# Altium schematic symbol library Regulator_Switching.SchLib: 1279 symbols (part 14 of 14)
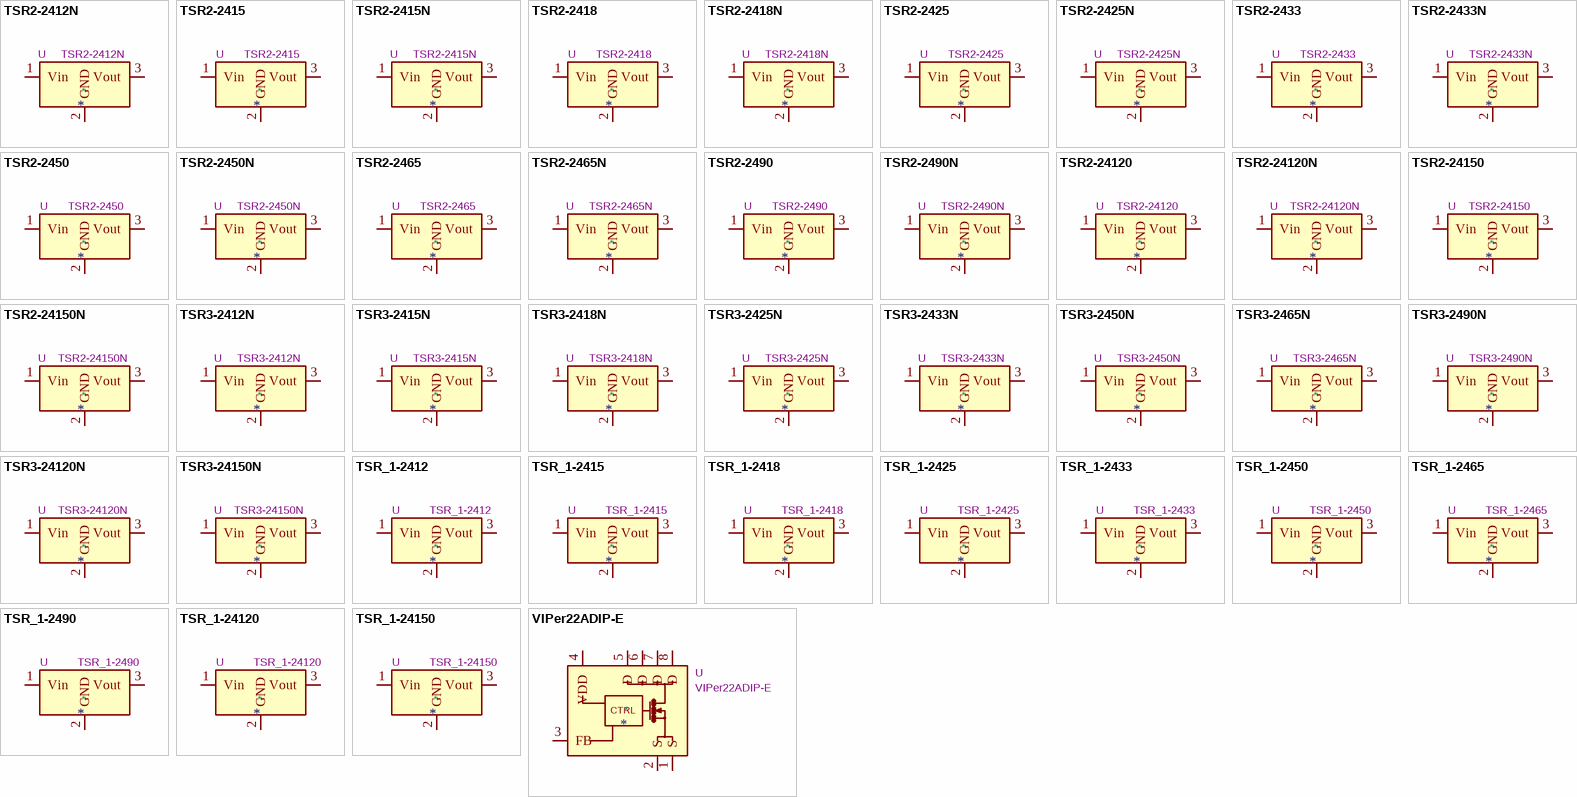
[diagram p45: symbols TSR2-2412N to VIPer22ADIP-E]

## TSR2-2418
designator *  value TSR2-2418  Reference: U
2A step-down regulator, fixed 1.8V output voltage, 4.6-36V input voltage, TO-220 compatible LM78xx replacement, SIP-3; ki_keywords: Traco non-isolated pol dcdc converter single; ki_fp_filters: Converter*DCDC*TRACO*TSR2*xxxx**THT*; Footprint: Converter_DCDC:Converter_DCDC_TRACO_TSR2-xxxx_THT; Datasheet: https://www.tracopower.com/products/tsr2.pdf; Description_: 2A step-down regulator, fixed 1.8V output voltage, 4.6-36V input voltage, TO-220 compatible LM78xx replacement, SIP-3
pins: 1 Vin, 2 GND, 3 Vout

## TSR2-2418N
designator *  value TSR2-2418N  Reference: U
2A step-down regulator, fixed 1.8V output voltage, 4.6-36V input voltage, TO-220 compatible LM78xx replacement; ki_keywords: Traco non-isolated pol dcdc converter single; ki_fp_filters: Converter*DCDC*TRACO*TSR2*24xxN*24xxxN*THT*; Footprint: Converter_DCDC:Converter_DCDC_TRACO_TSR2-24xxN_TSR2-24xxxN_THT; Datasheet: https://www.tracopower.com/products/tsr2n.pdf; Description_: 2A step-down regulator, fixed 1.8V output voltage, 4.6-36V input voltage, TO-220 compatible LM78xx replacement
pins: 1 Vin, 2 GND, 3 Vout

## TSR2-2425
designator *  value TSR2-2425  Reference: U
2A step-down regulator, fixed 2.5V output voltage, 4.6-36V input voltage, TO-220 compatible LM78xx replacement, SIP-3; ki_keywords: Traco non-isolated pol dcdc converter single; ki_fp_filters: Converter*DCDC*TRACO*TSR2*xxxx**THT*; Footprint: Converter_DCDC:Converter_DCDC_TRACO_TSR2-xxxx_THT; Datasheet: https://www.tracopower.com/products/tsr2.pdf; Description_: 2A step-down regulator, fixed 2.5V output voltage, 4.6-36V input voltage, TO-220 compatible LM78xx replacement, SIP-3
pins: 1 Vin, 2 GND, 3 Vout

## TSR2-2425N
designator *  value TSR2-2425N  Reference: U
2A step-down regulator, fixed 2.5V output voltage, 4.6-36V input voltage, TO-220 compatible LM78xx replacement; ki_keywords: Traco non-isolated pol dcdc converter single; ki_fp_filters: Converter*DCDC*TRACO*TSR2*24xxN*24xxxN*THT*; Footprint: Converter_DCDC:Converter_DCDC_TRACO_TSR2-24xxN_TSR2-24xxxN_THT; Datasheet: https://www.tracopower.com/products/tsr2n.pdf; Description_: 2A step-down regulator, fixed 2.5V output voltage, 4.6-36V input voltage, TO-220 compatible LM78xx replacement
pins: 1 Vin, 2 GND, 3 Vout

## TSR2-2433
designator *  value TSR2-2433  Reference: U
2A step-down regulator, fixed 3.3V output voltage, 4.75-36V input voltage, TO-220 compatible LM78xx replacement, SIP-3; ki_keywords: Traco non-isolated pol dcdc converter single; ki_fp_filters: Converter*DCDC*TRACO*TSR2*xxxx**THT*; Footprint: Converter_DCDC:Converter_DCDC_TRACO_TSR2-xxxx_THT; Datasheet: https://www.tracopower.com/products/tsr2.pdf; Description_: 2A step-down regulator, fixed 3.3V output voltage, 4.75-36V input voltage, TO-220 compatible LM78xx replacement, SIP-3
pins: 1 Vin, 2 GND, 3 Vout

## TSR2-2433N
designator *  value TSR2-2433N  Reference: U
2A step-down regulator, fixed 3.3V output voltage, 4.6-36V input voltage, TO-220 compatible LM78xx replacement; ki_keywords: Traco non-isolated pol dcdc converter single; ki_fp_filters: Converter*DCDC*TRACO*TSR2*24xxN*24xxxN*THT*; Footprint: Converter_DCDC:Converter_DCDC_TRACO_TSR2-24xxN_TSR2-24xxxN_THT; Datasheet: https://www.tracopower.com/products/tsr2n.pdf; Description_: 2A step-down regulator, fixed 3.3V output voltage, 4.6-36V input voltage, TO-220 compatible LM78xx replacement
pins: 1 Vin, 2 GND, 3 Vout

## TSR2-2450
designator *  value TSR2-2450  Reference: U
2A step-down regulator, fixed 5V output voltage, 6.5-36V input voltage, TO-220 compatible LM78xx replacement, SIP-3; ki_keywords: Traco non-isolated pol dcdc converter single; ki_fp_filters: Converter*DCDC*TRACO*TSR2*xxxx**THT*; Footprint: Converter_DCDC:Converter_DCDC_TRACO_TSR2-xxxx_THT; Datasheet: https://www.tracopower.com/products/tsr2.pdf; Description_: 2A step-down regulator, fixed 5V output voltage, 6.5-36V input voltage, TO-220 compatible LM78xx replacement, SIP-3
pins: 1 Vin, 2 GND, 3 Vout

## TSR2-2450N
designator *  value TSR2-2450N  Reference: U
2A step-down regulator, fixed 5V output voltage, 6.5-36V input voltage, TO-220 compatible LM78xx replacement; ki_keywords: Traco non-isolated pol dcdc converter single; ki_fp_filters: Converter*DCDC*TRACO*TSR2*24xxN*24xxxN*THT*; Footprint: Converter_DCDC:Converter_DCDC_TRACO_TSR2-24xxN_TSR2-24xxxN_THT; Datasheet: https://www.tracopower.com/products/tsr2n.pdf; Description_: 2A step-down regulator, fixed 5V output voltage, 6.5-36V input voltage, TO-220 compatible LM78xx replacement
pins: 1 Vin, 2 GND, 3 Vout

## TSR2-2465
designator *  value TSR2-2465  Reference: U
2A step-down regulator, fixed 6.5V output voltage, 9-36V input voltage, TO-220 compatible LM78xx replacement, SIP-3; ki_keywords: Traco non-isolated pol dcdc converter single; ki_fp_filters: Converter*DCDC*TRACO*TSR2*xxxx**THT*; Footprint: Converter_DCDC:Converter_DCDC_TRACO_TSR2-xxxx_THT; Datasheet: https://www.tracopower.com/products/tsr2.pdf; Description_: 2A step-down regulator, fixed 6.5V output voltage, 9-36V input voltage, TO-220 compatible LM78xx replacement, SIP-3
pins: 1 Vin, 2 GND, 3 Vout

## TSR2-2465N
designator *  value TSR2-2465N  Reference: U
2A step-down regulator, fixed 6.5V output voltage, 9-36V input voltage, TO-220 compatible LM78xx replacement; ki_keywords: Traco non-isolated pol dcdc converter single; ki_fp_filters: Converter*DCDC*TRACO*TSR2*24xxN*24xxxN*THT*; Footprint: Converter_DCDC:Converter_DCDC_TRACO_TSR2-24xxN_TSR2-24xxxN_THT; Datasheet: https://www.tracopower.com/products/tsr2n.pdf; Description_: 2A step-down regulator, fixed 6.5V output voltage, 9-36V input voltage, TO-220 compatible LM78xx replacement
pins: 1 Vin, 2 GND, 3 Vout

## TSR2-2490
designator *  value TSR2-2490  Reference: U
2A step-down regulator, fixed 9V output voltage, 12-36V input voltage, TO-220 compatible LM78xx replacement, SIP-3; ki_keywords: Traco non-isolated pol dcdc converter single; ki_fp_filters: Converter*DCDC*TRACO*TSR2*xxxx**THT*; Footprint: Converter_DCDC:Converter_DCDC_TRACO_TSR2-xxxx_THT; Datasheet: https://www.tracopower.com/products/tsr2.pdf; Description_: 2A step-down regulator, fixed 9V output voltage, 12-36V input voltage, TO-220 compatible LM78xx replacement, SIP-3
pins: 1 Vin, 2 GND, 3 Vout

## TSR2-2490N
designator *  value TSR2-2490N  Reference: U
2A step-down regulator, fixed 9V output voltage, 11-36V input voltage, TO-220 compatible LM78xx replacement; ki_keywords: Traco non-isolated pol dcdc converter single; ki_fp_filters: Converter*DCDC*TRACO*TSR2*24xxN*24xxxN*THT*; Footprint: Converter_DCDC:Converter_DCDC_TRACO_TSR2-24xxN_TSR2-24xxxN_THT; Datasheet: https://www.tracopower.com/products/tsr2n.pdf; Description_: 2A step-down regulator, fixed 9V output voltage, 11-36V input voltage, TO-220 compatible LM78xx replacement
pins: 1 Vin, 2 GND, 3 Vout

## TSR2-24120
designator *  value TSR2-24120  Reference: U
2A step-down regulator, fixed 12V output voltage, 15-36V input voltage, TO-220 compatible LM78xx replacement, SIP-3; ki_keywords: Traco non-isolated pol dcdc converter single; ki_fp_filters: Converter*DCDC*TRACO*TSR2*xxxx**THT*; Footprint: Converter_DCDC:Converter_DCDC_TRACO_TSR2-xxxx_THT; Datasheet: https://www.tracopower.com/products/tsr2.pdf; Description_: 2A step-down regulator, fixed 12V output voltage, 15-36V input voltage, TO-220 compatible LM78xx replacement, SIP-3
pins: 1 Vin, 2 GND, 3 Vout

## TSR2-24120N
designator *  value TSR2-24120N  Reference: U
2A step-down regulator, fixed 12V output voltage, 15-36V input voltage, TO-220 compatible LM78xx replacement; ki_keywords: Traco non-isolated pol dcdc converter single; ki_fp_filters: Converter*DCDC*TRACO*TSR2*24xxN*24xxxN*THT*; Footprint: Converter_DCDC:Converter_DCDC_TRACO_TSR2-24xxN_TSR2-24xxxN_THT; Datasheet: https://www.tracopower.com/products/tsr2n.pdf; Description_: 2A step-down regulator, fixed 12V output voltage, 15-36V input voltage, TO-220 compatible LM78xx replacement
pins: 1 Vin, 2 GND, 3 Vout

## TSR2-24150
designator *  value TSR2-24150  Reference: U
2A step-down regulator, fixed 15V output voltage, 18-36V input voltage, TO-220 compatible LM78xx replacement, SIP-3; ki_keywords: Traco non-isolated pol dcdc converter single; ki_fp_filters: Converter*DCDC*TRACO*TSR2*xxxx**THT*; Footprint: Converter_DCDC:Converter_DCDC_TRACO_TSR2-xxxx_THT; Datasheet: https://www.tracopower.com/products/tsr2.pdf; Description_: 2A step-down regulator, fixed 15V output voltage, 18-36V input voltage, TO-220 compatible LM78xx replacement, SIP-3
pins: 1 Vin, 2 GND, 3 Vout

## TSR2-24150N
designator *  value TSR2-24150N  Reference: U
2A step-down regulator, fixed 15V output voltage, 18-36V input voltage, TO-220 compatible LM78xx replacement; ki_keywords: Traco non-isolated pol dcdc converter single; ki_fp_filters: Converter*DCDC*TRACO*TSR2*24xxN*24xxxN*THT*; Footprint: Converter_DCDC:Converter_DCDC_TRACO_TSR2-24xxN_TSR2-24xxxN_THT; Datasheet: https://www.tracopower.com/products/tsr2n.pdf; Description_: 2A step-down regulator, fixed 15V output voltage, 18-36V input voltage, TO-220 compatible LM78xx replacement
pins: 1 Vin, 2 GND, 3 Vout

## TSR3-2412N
designator *  value TSR3-2412N  Reference: U
3A step-down regulator, fixed 1.2V output voltage, 4.6-28V input voltage, TO-220 compatible LM78xx replacement; ki_keywords: Traco non-isolated pol dcdc converter single; ki_fp_filters: Converter*DCDC*TRACO*TSR2*24xxN*24xxxN*THT*; Footprint: Converter_DCDC:Converter_DCDC_TRACO_TSR2-24xxN_TSR2-24xxxN_THT; Datasheet: https://www.tracopower.com/products/tsr3n.pdf; Description_: 3A step-down regulator, fixed 1.2V output voltage, 4.6-28V input voltage, TO-220 compatible LM78xx replacement
pins: 1 Vin, 2 GND, 3 Vout

## TSR3-2415N
designator *  value TSR3-2415N  Reference: U
3A step-down regulator, fixed 1.5V output voltage, 4.6-32V input voltage, TO-220 compatible LM78xx replacement; ki_keywords: Traco non-isolated pol dcdc converter single; ki_fp_filters: Converter*DCDC*TRACO*TSR2*24xxN*24xxxN*THT*; Footprint: Converter_DCDC:Converter_DCDC_TRACO_TSR2-24xxN_TSR2-24xxxN_THT; Datasheet: https://www.tracopower.com/products/tsr3n.pdf; Description_: 3A step-down regulator, fixed 1.5V output voltage, 4.6-32V input voltage, TO-220 compatible LM78xx replacement
pins: 1 Vin, 2 GND, 3 Vout

## TSR3-2418N
designator *  value TSR3-2418N  Reference: U
3A step-down regulator, fixed 1.8V output voltage, 4.6-36V input voltage, TO-220 compatible LM78xx replacement; ki_keywords: Traco non-isolated pol dcdc converter single; ki_fp_filters: Converter*DCDC*TRACO*TSR2*24xxN*24xxxN*THT*; Footprint: Converter_DCDC:Converter_DCDC_TRACO_TSR2-24xxN_TSR2-24xxxN_THT; Datasheet: https://www.tracopower.com/products/tsr3n.pdf; Description_: 3A step-down regulator, fixed 1.8V output voltage, 4.6-36V input voltage, TO-220 compatible LM78xx replacement
pins: 1 Vin, 2 GND, 3 Vout

## TSR3-2425N
designator *  value TSR3-2425N  Reference: U
3A step-down regulator, fixed 2.5V output voltage, 4.6-36V input voltage, TO-220 compatible LM78xx replacement; ki_keywords: Traco non-isolated pol dcdc converter single; ki_fp_filters: Converter*DCDC*TRACO*TSR2*24xxN*24xxxN*THT*; Footprint: Converter_DCDC:Converter_DCDC_TRACO_TSR2-24xxN_TSR2-24xxxN_THT; Datasheet: https://www.tracopower.com/products/tsr3n.pdf; Description_: 3A step-down regulator, fixed 2.5V output voltage, 4.6-36V input voltage, TO-220 compatible LM78xx replacement
pins: 1 Vin, 2 GND, 3 Vout

## TSR3-2433N
designator *  value TSR3-2433N  Reference: U
3A step-down regulator, fixed 3.3V output voltage, 4.6-36V input voltage, TO-220 compatible LM78xx replacement; ki_keywords: Traco non-isolated pol dcdc converter single; ki_fp_filters: Converter*DCDC*TRACO*TSR2*24xxN*24xxxN*THT*; Footprint: Converter_DCDC:Converter_DCDC_TRACO_TSR2-24xxN_TSR2-24xxxN_THT; Datasheet: https://www.tracopower.com/products/tsr3n.pdf; Description_: 3A step-down regulator, fixed 3.3V output voltage, 4.6-36V input voltage, TO-220 compatible LM78xx replacement
pins: 1 Vin, 2 GND, 3 Vout

## TSR3-2450N
designator *  value TSR3-2450N  Reference: U
3A step-down regulator, fixed 5V output voltage, 6.5-36V input voltage, TO-220 compatible LM78xx replacement; ki_keywords: Traco non-isolated pol dcdc converter single; ki_fp_filters: Converter*DCDC*TRACO*TSR2*24xxN*24xxxN*THT*; Footprint: Converter_DCDC:Converter_DCDC_TRACO_TSR2-24xxN_TSR2-24xxxN_THT; Datasheet: https://www.tracopower.com/products/tsr3n.pdf; Description_: 3A step-down regulator, fixed 5V output voltage, 6.5-36V input voltage, TO-220 compatible LM78xx replacement
pins: 1 Vin, 2 GND, 3 Vout

## TSR3-2465N
designator *  value TSR3-2465N  Reference: U
3A step-down regulator, fixed 6.5V output voltage, 9-36V input voltage, TO-220 compatible LM78xx replacement; ki_keywords: Traco non-isolated pol dcdc converter single; ki_fp_filters: Converter*DCDC*TRACO*TSR2*24xxN*24xxxN*THT*; Footprint: Converter_DCDC:Converter_DCDC_TRACO_TSR2-24xxN_TSR2-24xxxN_THT; Datasheet: https://www.tracopower.com/products/tsr3n.pdf; Description_: 3A step-down regulator, fixed 6.5V output voltage, 9-36V input voltage, TO-220 compatible LM78xx replacement
pins: 1 Vin, 2 GND, 3 Vout

## TSR3-2490N
designator *  value TSR3-2490N  Reference: U
3A step-down regulator, fixed 9V output voltage, 11-36V input voltage, TO-220 compatible LM78xx replacement; ki_keywords: Traco non-isolated pol dcdc converter single; ki_fp_filters: Converter*DCDC*TRACO*TSR2*24xxN*24xxxN*THT*; Footprint: Converter_DCDC:Converter_DCDC_TRACO_TSR2-24xxN_TSR2-24xxxN_THT; Datasheet: https://www.tracopower.com/products/tsr3n.pdf; Description_: 3A step-down regulator, fixed 9V output voltage, 11-36V input voltage, TO-220 compatible LM78xx replacement
pins: 1 Vin, 2 GND, 3 Vout

## TSR3-24120N
designator *  value TSR3-24120N  Reference: U
3A step-down regulator, fixed 12V output voltage, 15-36V input voltage, TO-220 compatible LM78xx replacement; ki_keywords: Traco non-isolated pol dcdc converter single; ki_fp_filters: Converter*DCDC*TRACO*TSR2*24xxN*24xxxN*THT*; Footprint: Converter_DCDC:Converter_DCDC_TRACO_TSR2-24xxN_TSR2-24xxxN_THT; Datasheet: https://www.tracopower.com/products/tsr3n.pdf; Description_: 3A step-down regulator, fixed 12V output voltage, 15-36V input voltage, TO-220 compatible LM78xx replacement
pins: 1 Vin, 2 GND, 3 Vout

## TSR3-24150N
designator *  value TSR3-24150N  Reference: U
3A step-down regulator, fixed 15V output voltage, 18-36V input voltage, TO-220 compatible LM78xx replacement; ki_keywords: Traco non-isolated pol dcdc converter single; ki_fp_filters: Converter*DCDC*TRACO*TSR2*24xxN*24xxxN*THT*; Footprint: Converter_DCDC:Converter_DCDC_TRACO_TSR2-24xxN_TSR2-24xxxN_THT; Datasheet: https://www.tracopower.com/products/tsr3n.pdf; Description_: 3A step-down regulator, fixed 15V output voltage, 18-36V input voltage, TO-220 compatible LM78xx replacement
pins: 1 Vin, 2 GND, 3 Vout

## TSR_1-2412
designator *  value TSR_1-2412  Reference: U
1A step-down regulator module, fixed 1.2V output voltage, 6-36V input voltage, -40°C to +85°C temperature range, TO-220 compatible LM78xx replacement; ki_keywords: dc-dc traco buck; ki_fp_filters: Converter*DCDC*TRACO*TSR?1*; Footprint: Converter_DCDC:Converter_DCDC_TRACO_TSR-1_THT; Datasheet: http://www.tracopower.com/products/tsr1.pdf; Description_: 1A step-down regulator module, fixed 1.2V output voltage, 6-36V input voltage, -40°C to +85°C temperature range, TO-220 compatible LM78xx replacement
pins: 1 Vin, 2 GND, 3 Vout

## TSR_1-2415
designator *  value TSR_1-2415  Reference: U
1A step-down regulator module, fixed 1.5V output voltage, 6-36V input voltage, -40°C to +85°C temperature range, TO-220 compatible LM78xx replacement; ki_keywords: dc-dc traco buck; ki_fp_filters: Converter*DCDC*TRACO*TSR?1*; Footprint: Converter_DCDC:Converter_DCDC_TRACO_TSR-1_THT; Datasheet: http://www.tracopower.com/products/tsr1.pdf; Description_: 1A step-down regulator module, fixed 1.5V output voltage, 6-36V input voltage, -40°C to +85°C temperature range, TO-220 compatible LM78xx replacement
pins: 1 Vin, 2 GND, 3 Vout

## TSR_1-2418
designator *  value TSR_1-2418  Reference: U
1A step-down regulator module, fixed 1.8V output voltage, 6-36V input voltage, -40°C to +85°C temperature range, TO-220 compatible LM78xx replacement; ki_keywords: dc-dc traco buck; ki_fp_filters: Converter*DCDC*TRACO*TSR?1*; Footprint: Converter_DCDC:Converter_DCDC_TRACO_TSR-1_THT; Datasheet: http://www.tracopower.com/products/tsr1.pdf; Description_: 1A step-down regulator module, fixed 1.8V output voltage, 6-36V input voltage, -40°C to +85°C temperature range, TO-220 compatible LM78xx replacement
pins: 1 Vin, 2 GND, 3 Vout

## TSR_1-2425
designator *  value TSR_1-2425  Reference: U
1A step-down regulator module, fixed 2.5V output voltage, 6-36V input voltage, -40°C to +85°C temperature range, TO-220 compatible LM78xx replacement; ki_keywords: dc-dc traco buck; ki_fp_filters: Converter*DCDC*TRACO*TSR?1*; Footprint: Converter_DCDC:Converter_DCDC_TRACO_TSR-1_THT; Datasheet: http://www.tracopower.com/products/tsr1.pdf; Description_: 1A step-down regulator module, fixed 2.5V output voltage, 6-36V input voltage, -40°C to +85°C temperature range, TO-220 compatible LM78xx replacement
pins: 1 Vin, 2 GND, 3 Vout

## TSR_1-2433
designator *  value TSR_1-2433  Reference: U
1A step-down regulator module, fixed 3.3V output voltage, 5-36V input voltage, -40°C to +85°C temperature range, TO-220 compatible LM78xx replacement; ki_keywords: dc-dc traco buck; ki_fp_filters: Converter*DCDC*TRACO*TSR?1*; Footprint: Converter_DCDC:Converter_DCDC_TRACO_TSR-1_THT; Datasheet: http://www.tracopower.com/products/tsr1.pdf; Description_: 1A step-down regulator module, fixed 3.3V output voltage, 5-36V input voltage, -40°C to +85°C temperature range, TO-220 compatible LM78xx replacement
pins: 1 Vin, 2 GND, 3 Vout

## TSR_1-2450
designator *  value TSR_1-2450  Reference: U
1A step-down regulator module, fixed 5V output voltage, 5-36V input voltage, -40°C to +85°C temperature range, TO-220 compatible LM78xx replacement; ki_keywords: dc-dc traco buck; ki_fp_filters: Converter*DCDC*TRACO*TSR?1*; Footprint: Converter_DCDC:Converter_DCDC_TRACO_TSR-1_THT; Datasheet: http://www.tracopower.com/products/tsr1.pdf; Description_: 1A step-down regulator module, fixed 5V output voltage, 5-36V input voltage, -40°C to +85°C temperature range, TO-220 compatible LM78xx replacement
pins: 1 Vin, 2 GND, 3 Vout

## TSR_1-2465
designator *  value TSR_1-2465  Reference: U
1A step-down regulator module, fixed 6.5V output voltage, 9-36V input voltage, -40°C to +85°C temperature range, TO-220 compatible LM78xx replacement; ki_keywords: dc-dc traco buck; ki_fp_filters: Converter*DCDC*TRACO*TSR?1*; Footprint: Converter_DCDC:Converter_DCDC_TRACO_TSR-1_THT; Datasheet: http://www.tracopower.com/products/tsr1.pdf; Description_: 1A step-down regulator module, fixed 6.5V output voltage, 9-36V input voltage, -40°C to +85°C temperature range, TO-220 compatible LM78xx replacement
pins: 1 Vin, 2 GND, 3 Vout

## TSR_1-2490
designator *  value TSR_1-2490  Reference: U
1A step-down regulator module, fixed 9V output voltage, 2-36V input voltage, -40°C to +85°C temperature range, TO-220 compatible LM78xx replacement; ki_keywords: dc-dc traco buck; ki_fp_filters: Converter*DCDC*TRACO*TSR?1*; Footprint: Converter_DCDC:Converter_DCDC_TRACO_TSR-1_THT; Datasheet: http://www.tracopower.com/products/tsr1.pdf; Description_: 1A step-down regulator module, fixed 9V output voltage, 2-36V input voltage, -40°C to +85°C temperature range, TO-220 compatible LM78xx replacement
pins: 1 Vin, 2 GND, 3 Vout

## TSR_1-24120
designator *  value TSR_1-24120  Reference: U
1A step-down regulator module, fixed 12V output voltage, 5-36V input voltage, -40°C to +85°C temperature range, TO-220 compatible LM78xx replacement; ki_keywords: dc-dc traco buck; ki_fp_filters: Converter*DCDC*TRACO*TSR?1*; Footprint: Converter_DCDC:Converter_DCDC_TRACO_TSR-1_THT; Datasheet: http://www.tracopower.com/products/tsr1.pdf; Description_: 1A step-down regulator module, fixed 12V output voltage, 5-36V input voltage, -40°C to +85°C temperature range, TO-220 compatible LM78xx replacement
pins: 1 Vin, 2 GND, 3 Vout

## TSR_1-24150
designator *  value TSR_1-24150  Reference: U
1A step-down regulator module, fixed 15V output voltage, 8-36V input voltage, -40°C to +85°C temperature range, TO-220 compatible LM78xx replacement; ki_keywords: dc-dc traco buck; ki_fp_filters: Converter*DCDC*TRACO*TSR?1*; Footprint: Converter_DCDC:Converter_DCDC_TRACO_TSR-1_THT; Datasheet: http://www.tracopower.com/products/tsr1.pdf; Description_: 1A step-down regulator module, fixed 15V output voltage, 8-36V input voltage, -40°C to +85°C temperature range, TO-220 compatible LM78xx replacement
pins: 1 Vin, 2 GND, 3 Vout

## VIPer22ADIP-E
designator *  value VIPer22ADIP-E  Reference: U
Low power OFF-line SMPS primary switcher; ki_fp_filters: DIP*W7.62mm*; Footprint: Package_DIP:DIP-8_W7.62mm; Datasheet: http://www.st.com/web/en/resource/technical/document/datasheet/CD00087939.pdf; Description_: Low power OFF-line SMPS primary switcher; ki_keywords: SMPS
pins: 1 S, 2 S, 3 FB, 4 VDD, 5 D, 6 D, 7 D, 8 D
text: CTRL

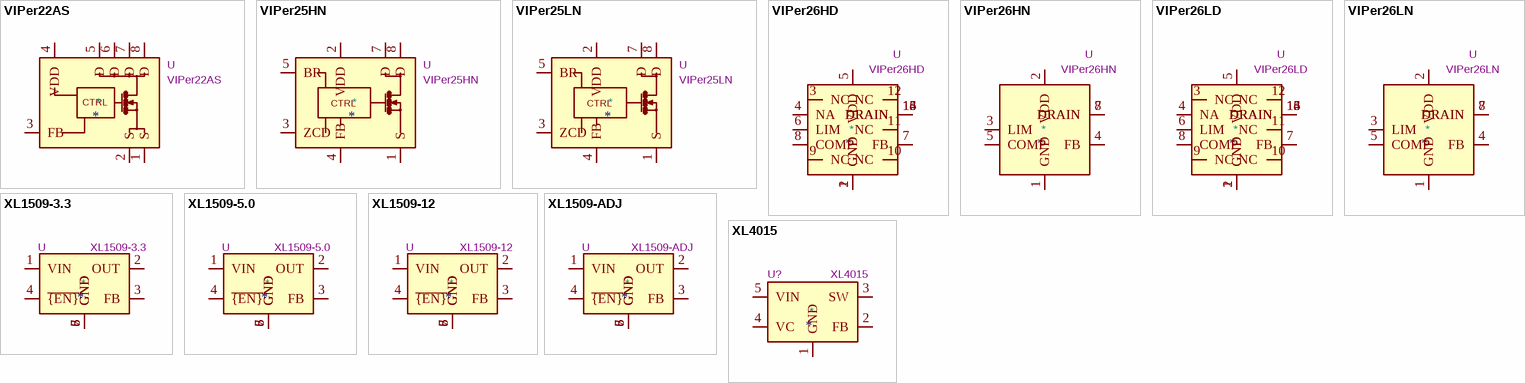
[diagram p32: symbols VIPer22AS to XL4015]

## VIPer22AS
designator *  value VIPer22AS  Reference: U
Low power OFF-line SMPS primary switcher; ki_fp_filters: SOIC*3.9x4.9mm*P1.27mm*; Footprint: Package_SO:SOIC-8_3.9x4.9mm_P1.27mm; Datasheet: http://www.st.com/web/en/resource/technical/document/datasheet/CD00087939.pdf; Description_: Low power OFF-line SMPS primary switcher; ki_keywords: SMPS
pins: 1 S, 2 S, 3 FB, 4 VDD, 5 D, 6 D, 7 D, 8 D
text: CTRL

## VIPer25HN
designator *  value VIPer25HN  Reference: U
12W SMPS Controller, AC-DC, PDIP-7; ki_keywords: SMPS Controller with MOSFET 12W AC-DC; ki_fp_filters: *PDIP*8B*; Footprint: Package_DIP:PowerIntegrations_PDIP-8B; Datasheet: http://www.st.com/internet/com/TECHNICAL_RESOURCES/TECHNICAL_LITERATURE/DATASHEET/CD00231127.pdf; Description_: 12W SMPS Controller, AC-DC, PDIP-7
pins: 1 S, 2 VDD, 3 ZCD, 4 FB, 5 BR, 7 D, 8 D
text: CTRL

## VIPer25LN
designator *  value VIPer25LN  Reference: U
12W SMPS Controller, AC-DC, PDIP-7; ki_keywords: SMPS Controller with MOSFET 12W AC-DC; ki_fp_filters: *PDIP*8B*; Footprint: Package_DIP:PowerIntegrations_PDIP-8B; Datasheet: http://www.st.com/internet/com/TECHNICAL_RESOURCES/TECHNICAL_LITERATURE/DATASHEET/CD00231127.pdf; Description_: 12W SMPS Controller, AC-DC, PDIP-7
pins: 1 S, 2 VDD, 3 ZCD, 4 FB, 5 BR, 7 D, 8 D
text: CTRL

## VIPer26HD
designator *  value VIPer26HD  Reference: U
800V, 10-20W, 115kHz, SMPS Controller, SOIC-16; ki_keywords: SMPS Controller with MOSFET; ki_fp_filters: SOIC*3.9x9.9mm*P1.27mm*; Footprint: Package_SO:SOIC-16_3.9x9.9mm_P1.27mm; Datasheet: https://www.st.com/resource/en/datasheet/viper26.pdf; Description_: 800V, 10-20W, 115kHz, SMPS Controller, SOIC-16
pins: 1 GND, 2 GND, 3 NC, 4 NA, 5 VDD, 6 LIM, 7 FB, 8 COMP, 9 NC, 10 NC, 11 NC, 12 NC, 13 DRAIN, 14 DRAIN, 15 DRAIN, 16 DRAIN

## VIPer26HN
designator *  value VIPer26HN  Reference: U
800V, 10-20W, 115kHz, SMPS Controller, DIP-7; ki_keywords: SMPS Controller with MOSFET; ki_fp_filters: DIP*N6*W7.62mm*; Footprint: Package_DIP:DIP-8-N6_W7.62mm; Datasheet: https://www.st.com/resource/en/datasheet/viper26.pdf; Description_: 800V, 10-20W, 115kHz, SMPS Controller, DIP-7
pins: 1 GND, 2 VDD, 3 LIM, 4 FB, 5 COMP, 7 DRAIN, 8 DRAIN

## VIPer26LD
designator *  value VIPer26LD  Reference: U
800V, 10-20W, 60kHz, SMPS Controller, SOIC-16; ki_keywords: SMPS Controller with MOSFET; ki_fp_filters: SOIC*3.9x9.9mm*P1.27mm*; Footprint: Package_SO:SOIC-16_3.9x9.9mm_P1.27mm; Datasheet: https://www.st.com/resource/en/datasheet/viper26.pdf; Description_: 800V, 10-20W, 60kHz, SMPS Controller, SOIC-16
pins: 1 GND, 2 GND, 3 NC, 4 NA, 5 VDD, 6 LIM, 7 FB, 8 COMP, 9 NC, 10 NC, 11 NC, 12 NC, 13 DRAIN, 14 DRAIN, 15 DRAIN, 16 DRAIN

## VIPer26LN
designator *  value VIPer26LN  Reference: U
800V, 10-20W, 60kHz, SMPS Controller, DIP-7; ki_keywords: SMPS Controller with MOSFET; ki_fp_filters: DIP*N6*W7.62mm*; Footprint: Package_DIP:DIP-8-N6_W7.62mm; Datasheet: https://www.st.com/resource/en/datasheet/viper26.pdf; Description_: 800V, 10-20W, 60kHz, SMPS Controller, DIP-7
pins: 1 GND, 2 VDD, 3 LIM, 4 FB, 5 COMP, 7 DRAIN, 8 DRAIN

## XL1509-3.3
designator *  value XL1509-3.3  Reference: U
Buck DC/DC Converter, 2A, 3.3V Output Voltage, 4.5-40V Input Voltage; ki_fp_filters: SOIC*3.9x4.9mm*P1.27mm*; Footprint: Package_SO:SOIC-8_3.9x4.9mm_P1.27mm; Datasheet: https://datasheet.lcsc.com/lcsc/1809050422_XLSEMI-XL1509-5-0E1_C61063.pdf; Description_: Buck DC/DC Converter, 2A, 3.3V Output Voltage, 4.5-40V Input Voltage; ki_keywords: Buck DC/DC converter
pins: 1 VIN, 2 OUT, 3 FB, 4 ~{{EN}}, 5 GND, 6 GND, 7 GND, 8 GND

## XL1509-5.0
designator *  value XL1509-5.0  Reference: U
Buck DC/DC Converter, 2A, 5V Output Voltage, 7-40V Input Voltage; ki_fp_filters: SOIC*3.9x4.9mm*P1.27mm*; Footprint: Package_SO:SOIC-8_3.9x4.9mm_P1.27mm; Datasheet: https://datasheet.lcsc.com/lcsc/1809050422_XLSEMI-XL1509-5-0E1_C61063.pdf; Description_: Buck DC/DC Converter, 2A, 5V Output Voltage, 7-40V Input Voltage; ki_keywords: Buck DC/DC Converter
pins: 1 VIN, 2 OUT, 3 FB, 4 ~{{EN}}, 5 GND, 6 GND, 7 GND, 8 GND

## XL1509-12
designator *  value XL1509-12  Reference: U
Buck DC/DC Converter, 2A, 12V Output Voltage, 15-40V Input Voltage; ki_fp_filters: SOIC*3.9x4.9mm*P1.27mm*; Footprint: Package_SO:SOIC-8_3.9x4.9mm_P1.27mm; Datasheet: https://datasheet.lcsc.com/lcsc/1809050422_XLSEMI-XL1509-5-0E1_C61063.pdf; Description_: Buck DC/DC Converter, 2A, 12V Output Voltage, 15-40V Input Voltage; ki_keywords: Buck DC/DC Converter
pins: 1 VIN, 2 OUT, 3 FB, 4 ~{{EN}}, 5 GND, 6 GND, 7 GND, 8 GND

## XL1509-ADJ
designator *  value XL1509-ADJ  Reference: U
Buck DC/DC Converter, 2A, 1.23-37V Adjustable Output Voltage, 4.5-40V Input Voltage; ki_fp_filters: SOIC*3.9x4.9mm*P1.27mm*; Footprint: Package_SO:SOIC-8_3.9x4.9mm_P1.27mm; Datasheet: https://datasheet.lcsc.com/lcsc/1809050422_XLSEMI-XL1509-5-0E1_C61063.pdf; Description_: Buck DC/DC Converter, 2A, 1.23-37V Adjustable Output Voltage, 4.5-40V Input Voltage; ki_keywords: Buck DC/DC Converter
pins: 1 VIN, 2 OUT, 3 FB, 4 ~{{EN}}, 5 GND, 6 GND, 7 GND, 8 GND

## XL4015
designator *  value XL4015  Reference: U?
5A 180kHz 36V Buck DC to DC Converter; ki_keywords: Buck DC-DC; ki_fp_filters: TO?263*; Footprint: Package_TO_SOT_SMD:TO-263-5_TabPin3; Datasheet: http://www.xlsemi.net/datasheet/XL4015%20datasheet-English.pdf; Description_: 5A 180kHz 36V Buck DC to DC Converter
pins: 1 GND, 2 FB, 3 SW, 4 VC, 5 VIN